# Altium schematic symbol library HeliLib.SchLib: 12 symbols
Pins are listed as number, name and electrical type; pins without a type are passive.

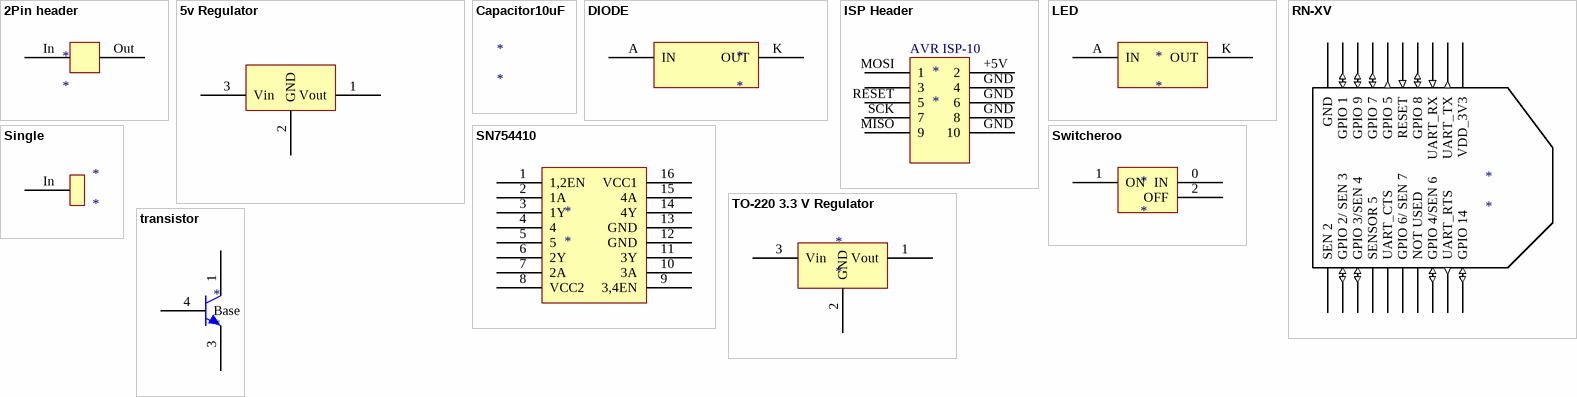
[diagram p0: symbols 2Pin header to transistor]

## 2Pin header
designator *
pins: In, Out

## 5v Regulator
designator 5V Regulator
footprint SOT89-150P360X170-3N (SOT89, 3-Leads, Body 4.5x2.5mm (max), Pitch 1.50mm, Lead Span 3.6mm, IPC Medium Density)
pins: 1 Vout, 2 GND, 3 Vin

## Capacitor10uF
designator *

## DIODE
designator *
footprint Diode
pins: A IN, K OUT

## ISP Header
designator *
pins: +5V 2 (power), ?1 3, GND 4 (power), GND 6 (power), GND 8 (power), GND 10 (power), MISO 9, MOSI 1, RESET 5, SCK 7
text: AVR ISP-10

## LED
designator *
footprint LEDFixed
pins: A IN, K OUT

## RN-XV
designator *
pins: 1 VDD_3V3 (power), 2 UART_TX (out), 3 UART_RX (in), 4 GPIO 8 (io), 5 RESET (in), 6 GPIO 5 (out), 7 GPIO 7 (io), 8 GPIO 9 (io), 9 GPIO 1 (io), 10 GND (power), 11 GPIO 14 (io), 12 UART_RTS (out), 13 GPIO 4/SEN 6 (io), 14 NOT USED, 15 GPIO 6/ SEN 7 (power), 16 UART_CTS, 17 SENSOR 5, 18 GPIO 3/SEN 4 (io), 19 GPIO 2/ SEN 3 (io), 20 SEN 2

## Single
designator *
pins: In

## SN754410
designator *
pins: 1 1,2EN, 2 1A, 3 1Y, 4 (power), 5 (power), 6 2Y, 7 2A, 8 VCC2, 9 3,4EN, 10 3A, 11 3Y, 12 GND (power), 13 GND (power), 14 4Y, 15 4A, 16 VCC1

## Switcheroo
designator *
footprint sw
pins: 0 IN, 1 ON, 2 OFF

## TO-220 3.3 V Regulator
designator *
footprint SOT89-150P410X160-3N (SOT89, 3-Leads, Body 4.5x2.4mm (max), Pitch 1.50mm, Lead Span 4.1mm, IPC Medium Density)
pins: 1 Vout (power), 2 GND (power), 3 Vin (power)

## transistor
designator *
footprint Transistornew (D-PAK, 3-Pads, Body 6.1x6.6mm (max), IPC Medium Density)
pins: 1, 3 Emitter, 4 Base